# EAGLE library part BUK6D120-60PX (library BUK6D120-60PX)
MOSFET 60V P-CH TRENCHMOS SOT1220 Source: Datasheet <https://componentsearchengine.com/Datasheets/2/BUK6D120-60PX.pdf>
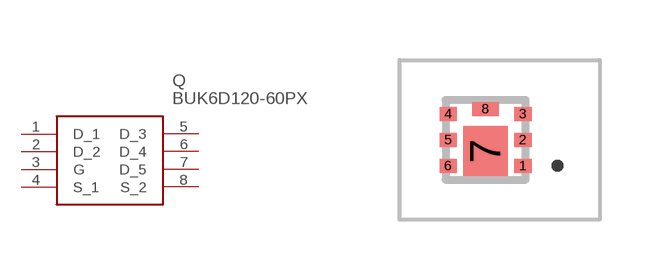
[diagram p0: symbol with the pads of BUK6D12060PX; footprint BUK6D12060PX]

Designator prefix Q

## BUK6D120-60PX (Description: MOSFET 60V P-CH TRENCHMOS SOT1220; Height: 0.65mm; Manufacturer_Name: Nexperia; Manufacturer_Part_Number: BUK6D120-60PX; Mouser_Part_Number: 771-BUK6D120-60PX; Mouser_Price-Stock: https://www.mouser.co.uk/ProductDetail/Nexperia/BUK6D120-60PX?qs=F5EMLAvA7IBtoNC2L3hOcQ%3D%3D)  [BUK6D12060PX]
1  D_1
2  D_2
3  G
4  S_1
5  D_3
6  D_4
7  D_5
8  S_2

## Footprint BUK6D12060PX (pad centres in mm)
BUK6D120-60PX-1
smd 0.43 x 0.35: 1 0.935,-0.65; 2 0.935,0; 3 0.935,0.65; 4 -0.935,0.65; 5 -0.935,0; 6 -0.935,-0.65
smd 1.1 x 1.25: 7 0,-0.285
smd 0.66 x 0.35: 8 0,0.775